# Altium footprint library INA333.PcbLib: 1 footprints
Each footprint in its own frame and in the unit in brackets; x right, y up, seen from the top. Pads: shape width x height; smd on the part's side, far side on the other; paste and mask are expansions set on the pad; w line width, h text height; cw(c..) or ccw(c..) is an arc to the next point about the centre after c.
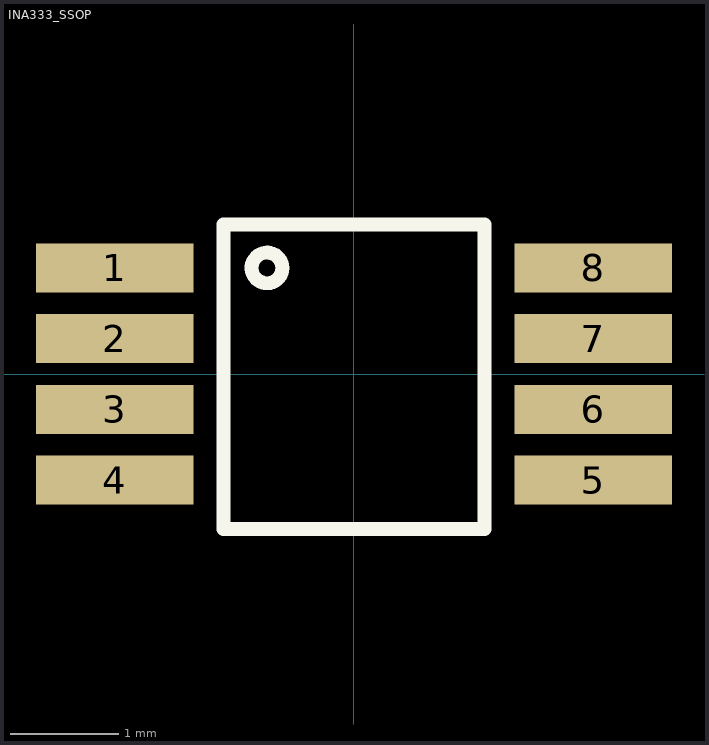
[diagram p0: the footprint, top view; thin cyan lines are the x and y axes]

## INA333_SSOP [mm] "SSOP"
pads (8):
  rect 1.45x0.45 smd: 1(-2.2,0.975) 2(-2.2,0.325) 3(-2.2,-0.325) 4(-2.2,-0.975) 5(2.2,-0.975) 6(2.2,-0.325) 7(2.2,0.325) 8(2.2,0.975)
Top Overlay:
  circle w0.127: c-0.8,0.975 r0.141
  lines w0.127: -1.2,-1.425 -1.2,1.375 1.2,1.375 1.2,-1.425 -1.2,-1.425
3D body "INA333_stp.STEP": height 1.06, standoff -0.04, extent -2.45,-1.5 2.45,1.5